# Altium schematic symbol library STM32U031C8T6.SchLib: 2 symbols
Pins are listed as number, name and electrical type; pins without a type are passive.

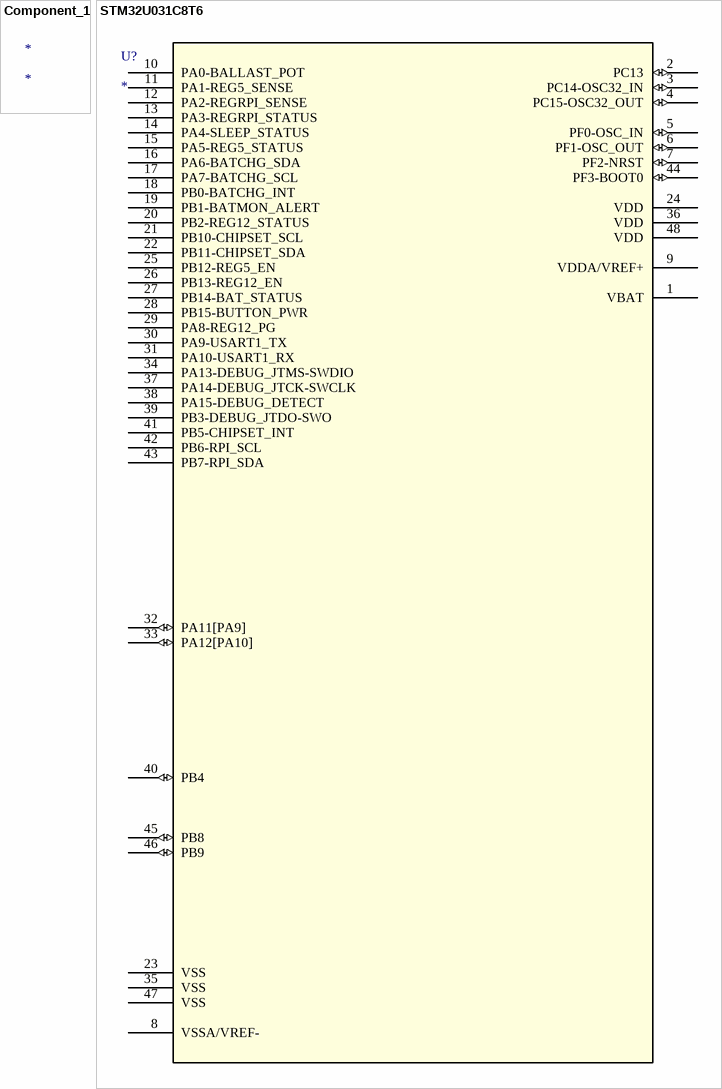
[diagram p0: symbols Component_1 to STM32U031C8T6]

## Component_1
designator *

## STM32U031C8T6
designator U?
No Description Available; Mfr_Name: STMicroelectronics; RefDes: RefDes; Type: Type
footprint LQFP48_STM
pins: 1 VBAT (power), 2 PC13 (io), 3 PC14-OSC32_IN (io), 4 PC15-OSC32_OUT (io), 5 PF0-OSC_IN (io), 6 PF1-OSC_OUT (io), 7 PF2-NRST (io), 8 VSSA/VREF- (power), 9 VDDA/VREF+ (power), 10 PA0-BALLAST_POT, 11 PA1-REG5_SENSE, 12 PA2-REGRPI_SENSE, 13 PA3-REGRPI_STATUS, 14 PA4-SLEEP_STATUS, 15 PA5-REG5_STATUS, 16 PA6-BATCHG_SDA, 17 PA7-BATCHG_SCL, 18 PB0-BATCHG_INT, 19 PB1-BATMON_ALERT, 20 PB2-REG12_STATUS, 21 PB10-CHIPSET_SCL, 22 PB11-CHIPSET_SDA, 23 VSS (power), 24 VDD (power), 25 PB12-REG5_EN, 26 PB13-REG12_EN, 27 PB14-BAT_STATUS, 28 PB15-BUTTON_PWR, 29 PA8-REG12_PG, 30 PA9-USART1_TX, 31 PA10-USART1_RX, 32 PA11[PA9] (io), 33 PA12[PA10] (io), 34 PA13-DEBUG_JTMS-SWDIO, 35 VSS (power), 36 VDD (power), 37 PA14-DEBUG_JTCK-SWCLK, 38 PA15-DEBUG_DETECT, 39 PB3-DEBUG_JTDO-SWO, 40 PB4 (io), 41 PB5-CHIPSET_INT, 42 PB6-RPI_SCL, 43 PB7-RPI_SDA, 44 PF3-BOOT0 (io), 45 PB8 (io), 46 PB9 (io), 47 VSS (power), 48 VDD (power)